# EAGLE library part AS3320 (library analog_audio)
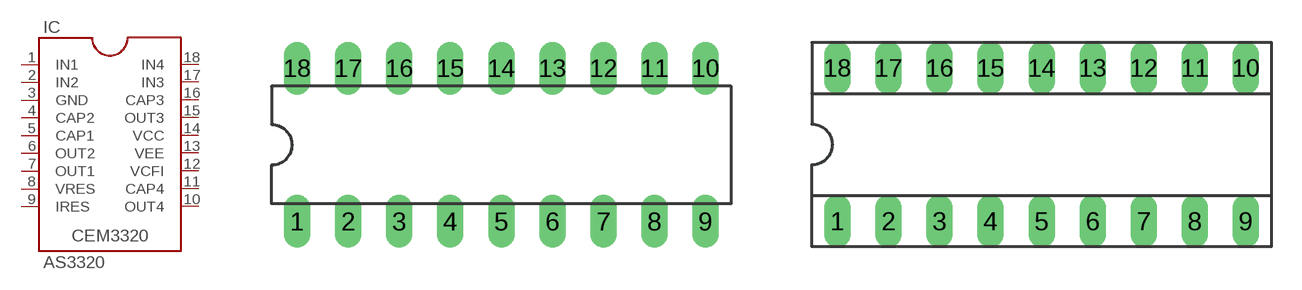
[diagram p1: symbol with the pads of DIL18; footprints DIL18, SOCKET-18]

Designator prefix IC

## AS3320  [DIL18]
1  IN1  pas
2  IN2  pas
3  GND  pas
4  CAP2  pas
5  CAP1  pas
6  OUT2  pas
7  OUT1  pas
8  VRES  pas
9  IRES  pas
10  OUT4  pas
11  CAP4  pas
12  VCFI  pas
13  VEE  pas
14  VCC  pas
15  OUT3  pas
16  CAP3  pas
17  IN3  pas
18  IN4  pas

## AS3320SOCKETED  [SOCKET-18]
Pads as for DIL18

## Footprint DIL18 (pad centres in mm)
Dual In Line Package
drill 0.813 long: 1 -10.16,-3.81; 2 -7.62,-3.81; 3 -5.08,-3.81; 4 -2.54,-3.81; 5 0,-3.81; 6 2.54,-3.81; 7 5.08,-3.81; 8 7.62,-3.81; 9 10.16,-3.81; 10 10.16,3.81; 11 7.62,3.81; 12 5.08,3.81; 13 2.54,3.81; 14 0,3.81; 15 -2.54,3.81; 16 -5.08,3.81; 17 -7.62,3.81; 18 -10.16,3.81

## Footprint SOCKET-18 (pad centres in mm)
Dual In Line Socket
drill 0.813 long: 1 -10.16,-3.81; 2 -7.62,-3.81; 3 -5.08,-3.81; 4 -2.54,-3.81; 5 0,-3.81; 6 2.54,-3.81; 7 5.08,-3.81; 8 7.62,-3.81; 9 10.16,-3.81; 10 10.16,3.81; 11 7.62,3.81; 12 5.08,3.81; 13 2.54,3.81; 14 0,3.81; 15 -2.54,3.81; 16 -5.08,3.81; 17 -7.62,3.81; 18 -10.16,3.81